# Altium schematic symbol library SIMBOLS_CONTROL.SCHLIB: 4 symbols
Pins are listed as number, name and electrical type; pins without a type are passive.

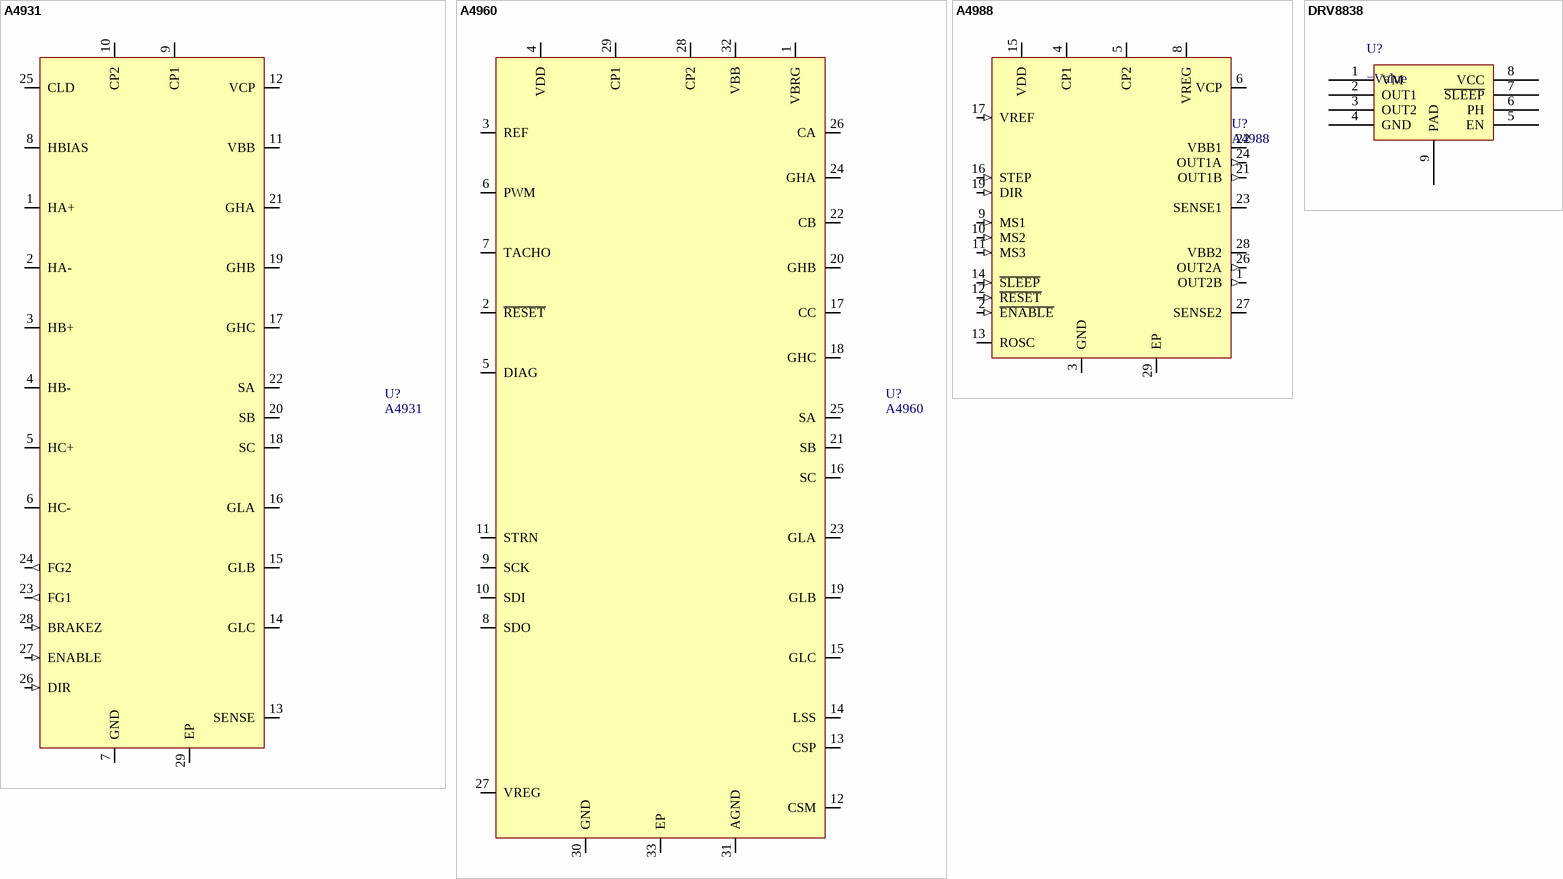
[diagram p0: symbols A4931 to DRV8838]

## A4931
designator U?
3-Phase Brushless DC Motor Pre-Driver
footprint QFN28 (QFN, 28-Leads, Body 5x5mm (max), Pitch 0,50mm, IPC Medium Density)
pins: 1 HA+, 2 HA-, 3 HB+ (power), 4 HB-, 5 HC+, 6 HC-, 7 GND, 8 HBIAS (power), 9 CP1, 10 CP2, 11 VBB, 12 VCP, 13 SENSE, 14 GLC, 15 GLB (power), 16 GLA, 17 GHC, 18 SC (power), 19 GHB, 20 SB, 21 GHA, 22 SA (power), 23 FG1 (out), 24 FG2 (out), 25 CLD, 26 DIR (in), 27 ENABLE (in), 28 BRAKEZ (in), 29 EP

## A4960
designator U?
Sensorless BLDC Controller
pins: 1 VBRG, 2 ~{RESET}, 3 REF (power), 4 VDD, 5 DIAG, 6 PWM, 7 TACHO, 8 SDO (power), 9 SCK, 10 SDI, 11 STRN, 12 CSM, 13 CSP, 14 LSS, 15 GLC (power), 16 SC, 17 CC, 18 GHC (power), 19 GLB, 20 GHB, 21 SB, 22 CB (power), 23 GLA, 24 GHA, 25 SA, 26 CA, 27 VREG, 28 CP2, 29 CP1, 30 GND, 31 AGND, 32 VBB, 33 EP

## A4988
designator U?
DMOS Microstepping Driver with Translator
footprint QFN28 (QFN, 28-Leads, Body 5x5mm (max), Pitch 0,50mm, IPC Medium Density)
pins: 1 OUT2B (out), 2 ~{ENABLE} (in), 3 GND (power), 4 CP1, 5 CP2, 6 VCP, 8 VREG (power), 9 MS1 (in), 10 MS2 (in), 11 MS3 (in), 12 ~{RESET} (in), 13 ROSC, 14 ~{SLEEP} (in), 15 VDD (power), 16 STEP (in), 17 VREF (in), 18 GND (power) hidden to GND, 19 DIR (in), 21 OUT1B (out), 22 VBB1 (power), 23 SENSE1, 24 OUT1A (out), 26 OUT2A (out), 27 SENSE2, 28 VBB2 (power), 29 GND (power) hidden to GND, 29 EP

## DRV8838
designator U?
pins: 1 VM (power), 2 OUT1 (power), 3 OUT2 (power), 4 GND (power), 5 EN, 6 PH, 7 ~{SLEEP}, 8 VCC (power), 9 PAD